# EAGLE library part MOSFET-FDFMA2P853 (library Discrete)
http://www.fairchildsemi.com/ds/FD/FDFMA2P853.pdf
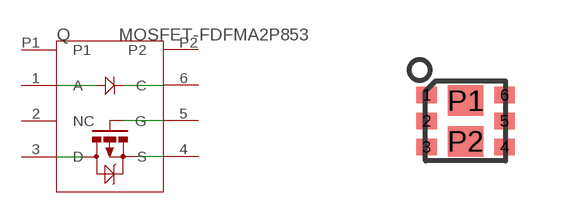
[diagram p3: symbol with the pads of MLP06; footprint MLP06]

Designator prefix Q

## MOSFET-FDFMA2P853  [MLP06]
1  A
2  NC
3  D
4  S
5  G
6  C
P1  P1
P2  P2

## Footprint MLP06 (pad centres in mm)
smd 0.508 x 0.42: 1 -0.975,0.65; 2 -0.975,0; 3 -0.975,-0.65; 4 0.975,-0.65; 5 0.975,0; 6 0.975,0.65
smd 0.889 x 0.762: P1 0,0.508; P2 0,-0.508